# Altium schematic symbol library TLV272IPG4.SchLib: 2 symbols
Pins are listed as number, name and electrical type; pins without a type are passive.

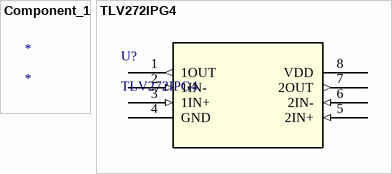
[diagram p0: symbols Component_1 to TLV272IPG4]

## Component_1
designator *

## TLV272IPG4
designator U?
No Description Available; Mfr_Name: Texas Instruments; Copyright: Copyright (C) 2021 Ultra Librarian. All rights reserved.; Manufacturer_Part_Number: TLV272IPG4; Digi-Key_Part_Number_1: TLV272IPG4-ND; Digi-Key_Part_Number_2: 296-12671-5-ND; RefDes: RefDes; Type: DEV
footprint P8_TEX
pins: 1 1OUT (out), 2 1IN- (in), 3 1IN+ (in), 4 GND (power), 5 2IN+ (in), 6 2IN- (in), 7 2OUT (out), 8 VDD (power)